# EAGLE library part LX7167A (library alvie)
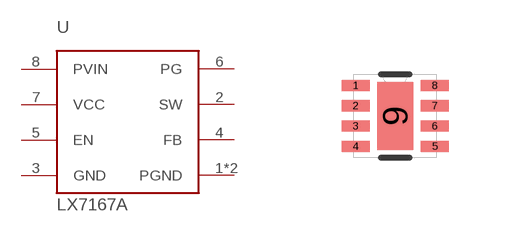
[diagram p76: symbol with the pads of DFN4_2X2_EP; footprint DFN4_2X2_EP]

Designator prefix -

## LX7167A  [DFN4_2X2_EP]
1  PGND  pwr
2  SW  pas
3  GND  pwr
4  FB  pas
5  EN  in
6  PG  oc
7  VCC  pwr
8  PVIN  pwr
9  PGND  pwr

## Footprint DFN4_2X2_EP (pad centres in mm)
smd 0.7 x 0.28: 1 -0.991,0.762; 2 -0.991,0.254; 3 -0.991,-0.254; 4 -0.991,-0.762; 5 0.991,-0.762; 6 0.991,-0.254; 7 0.991,0.254; 8 0.991,0.762
smd 0.9 x 1.7: 9 0,0